# Altium schematic symbol library RES_49.9ohm_806pkg.SchLib: 1 symbol
Pins are listed as number, name and electrical type; pins without a type are passive.

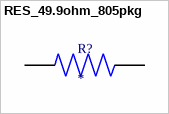
[diagram p0: symbol RES_49.9ohm_805pkg]

## RES_49.9ohm_805pkg
designator R?
49.9 Ohms Â±1% 0.125W, 1/8W Chip Resistor 0805 _2012 Metric_ Thick Film; MP: CRCW080549R9FKEAC; MF: Vishay; Value: *; Package: 2012 Vishay; Digi-Key_Purchase_URL: https://www.digikey.tn/product-detail/en/vishay-dale/CRCW080549R9FKEAC/541-4144-1-ND/7928827?utm_source=snapeda&utm_medium=aggregator&utm_campaign=symbol; Digi-Key_Part_Number: 541-4144-1-ND; SnapEDA_Link: https://www.snapeda.com/parts/CRCW080549R9FKEAC/Vishay/view-part/4164271/?ref=snap
footprint RESC2012X60N
pins: 1, 2